# Altium footprint library ST.PcbLib: 1 footprints
Each footprint in its own frame and in the unit in brackets; x right, y up, seen from the top. Pads: shape width x height; smd on the part's side, far side on the other; paste and mask are expansions set on the pad; w line width, h text height; cw(c..) or ccw(c..) is an arc to the next point about the centre after c.
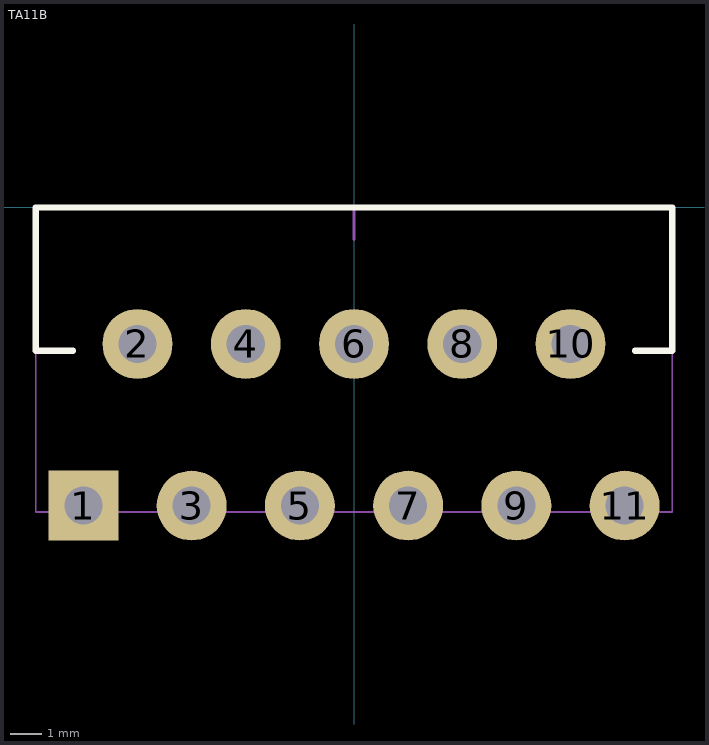
[diagram p0: the footprint, top view; thin cyan lines are the x and y axes]

## TA11B [mm] "National TA11B IC封装"
height 21
pads (11):
  rect 2.2x2.2 hole 1.2 unplated: 1(-8.51,-9.373)
  round 2.2 hole 1.2 unplated: 2(-6.808,-4.293) 3(-5.106,-9.373) 4(-3.404,-4.293) 5(-1.702,-9.373) 6(0,-4.293) 7(1.702,-9.373) 8(3.404,-4.293) 9(5.106,-9.373) 10(6.808,-4.293) 11(8.51,-9.373)
Top Overlay:
  lines w0.2: -8.835,-4.5 -10.005,-4.5 -10.005,0 10.005,0 10.005,-4.5 8.835,-4.5
Mechanical 13:
  lines w0.05: -10.005,-9.576 -10.005,0 10.005,0 10.005,-9.576 -10.005,-9.576
Mechanical 15:
  lines w0.1: -1,0 1,0 ; 0,-1 0,0
3D body: height 20.6, standoff -4.19, extent -10.005,-9.576 10.005,0